# Altium footprint library screwire.PcbLib: 148 footprints (part 6 of 10)
Each footprint in its own frame and in the unit in brackets; x right, y up, seen from the top. Pads: shape width x height; smd on the part's side, far side on the other; paste and mask are expansions set on the pad; w line width, h text height; cw(c..) or ccw(c..) is an arc to the next point about the centre after c.
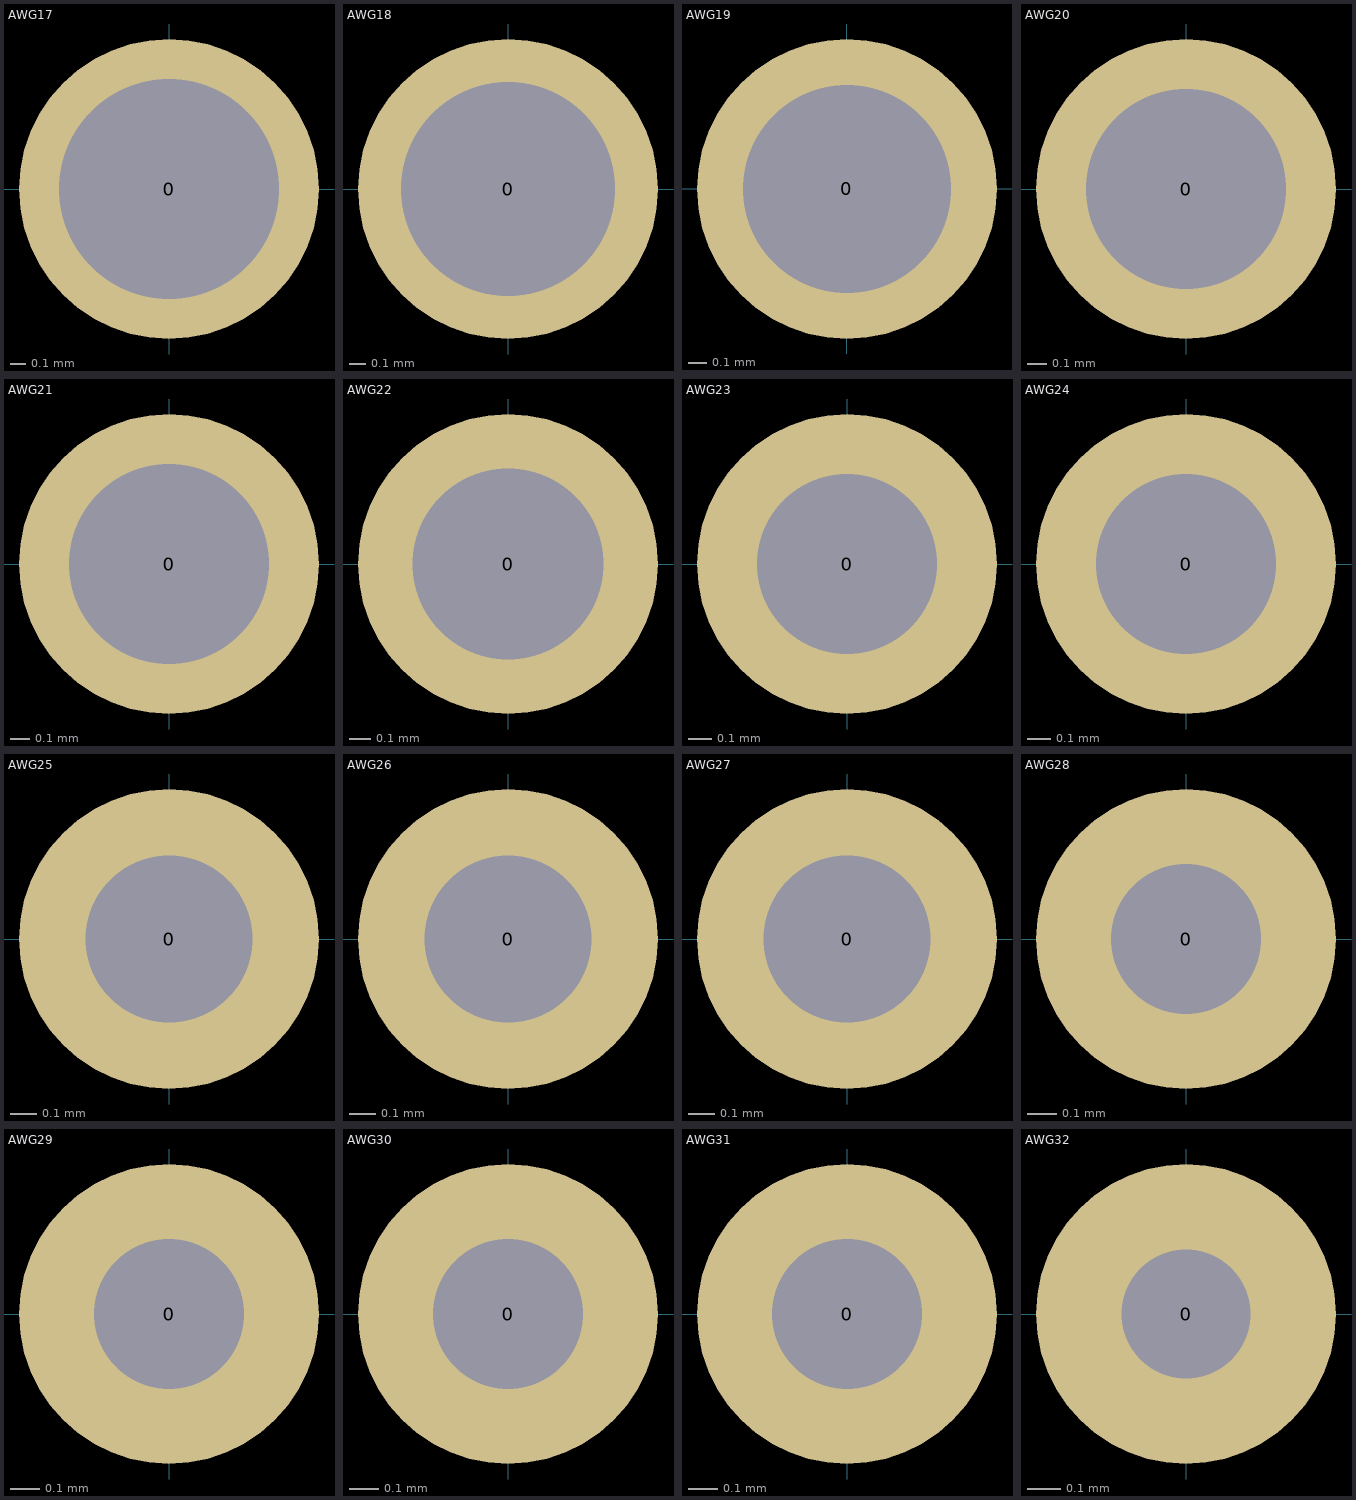
[diagram p5: the footprints below, top view; thin cyan lines are the x and y axes]

## AWG17 [mil]
pads (1):
  round 75 hole 55: 0(0,0)

## AWG18 [mil]
pads (1):
  round 70 hole 50: 0(0,0)

## AWG19 [mil]
pads (1):
  round 65 hole 45: 0(0,0)

## AWG20 [mil]
pads (1):
  round 60 hole 40: 0(0,0)

## AWG21 [mil]
pads (1):
  round 60 hole 40: 0(0,0)

## AWG22 [mil]
pads (1):
  round 55 hole 35: 0(0,0)

## AWG23 [mil]
pads (1):
  round 50 hole 30: 0(0,0)

## AWG24 [mil]
pads (1):
  round 50 hole 30: 0(0,0)

## AWG25 [mil]
pads (1):
  round 45 hole 25: 0(0,0)

## AWG26 [mil]
pads (1):
  round 45 hole 25: 0(0,0)

## AWG27 [mil]
pads (1):
  round 45 hole 25: 0(0,0)

## AWG28 [mil]
pads (1):
  round 40 hole 20: 0(0,0)

## AWG29 [mil]
pads (1):
  round 40 hole 20: 0(0,0)

## AWG30 [mil]
pads (1):
  round 40 hole 20: 0(0,0)

## AWG31 [mil]
pads (1):
  round 40 hole 20: 0(0,0)

## AWG32 [mil]
pads (1):
  round 35 hole 15: 0(0,0)